# Altium schematic symbol library k7sch1.SchLib: 2 symbols
Pins are listed as number, name and electrical type; pins without a type are passive.

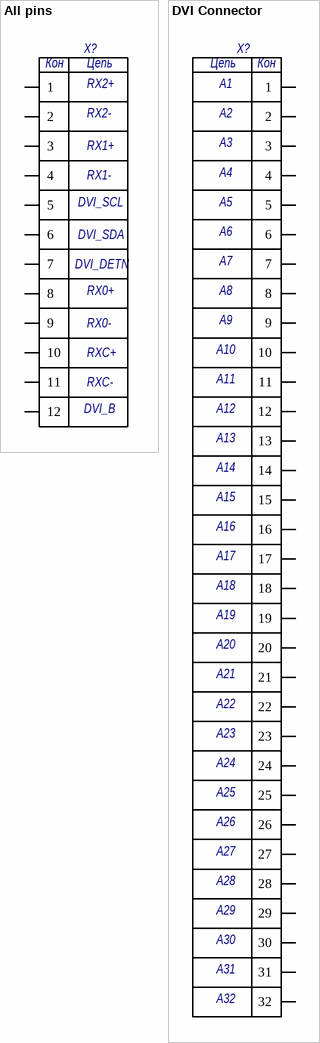
[diagram p0: symbols All pins to DVI Connector]

## All pins
designator X?  (value not drawn)
footprint All pins
pins: 1, 2, 3, 4, 5, 6, 7, 8, 9, 10, 11, 12
text: Кон; Цепь; RX2+; RX2-; RX1+; RX1-; DVI_SCL; DVI_SDA; DVI_DETN; RX0+; RX0-; RXC+; RXC-; DVI_B

## DVI Connector
designator X?  (value not drawn)
footprint DVI Connector
pins: 1, 2, 3, 4, 5, 6, 7, 8, 9, 10, 11, 12, 13, 14, 15, 16, 17, 18, 19, 20, 21, 22, 23, 24, 25, 26, 27, 28, 29, 30, 31, 32
text: Цепь; Кон; A1; A2; A3; A4; A5; A6; A7; A8; A9; A10; A11; A12; A13; A14; A15; A16; A17; A18; A19; A20; A21; A22; A23; A24; A25; A26; A27; A28; A29; A30; A31; A32